# EAGLE library part FAN7081MX_GF085 (library ICs)
IGBT/MOSFET Driver, High Side, 10V-20V Supply, 250mA Out, 140ns Delay, SOIC-8
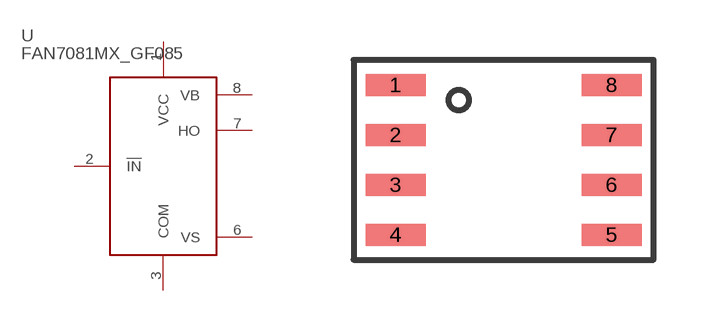
[diagram p119: symbol with the pads of SO8; footprint SO8]

Designator prefix U

## FAN7081MX_GF085 (FARNELL: 2290268; PRICE_PER: 1.04; VALUE: FAN7081MX)  [SO8]
1  VCC
2  !IN
3  COM
6  VS
7  HO
8  VB

## Footprint SO8 (pad centres in mm)
smd 1.5 x 0.55: 1 -2.7,1.875; 2 -2.7,0.625; 3 -2.7,-0.625; 4 -2.7,-1.875; 5 2.7,-1.875; 6 2.7,-0.625; 7 2.7,0.625; 8 2.7,1.875